# Altium integrated library Maxim Analog Filters.IntLib: 555 symbols (part 11 of 26)
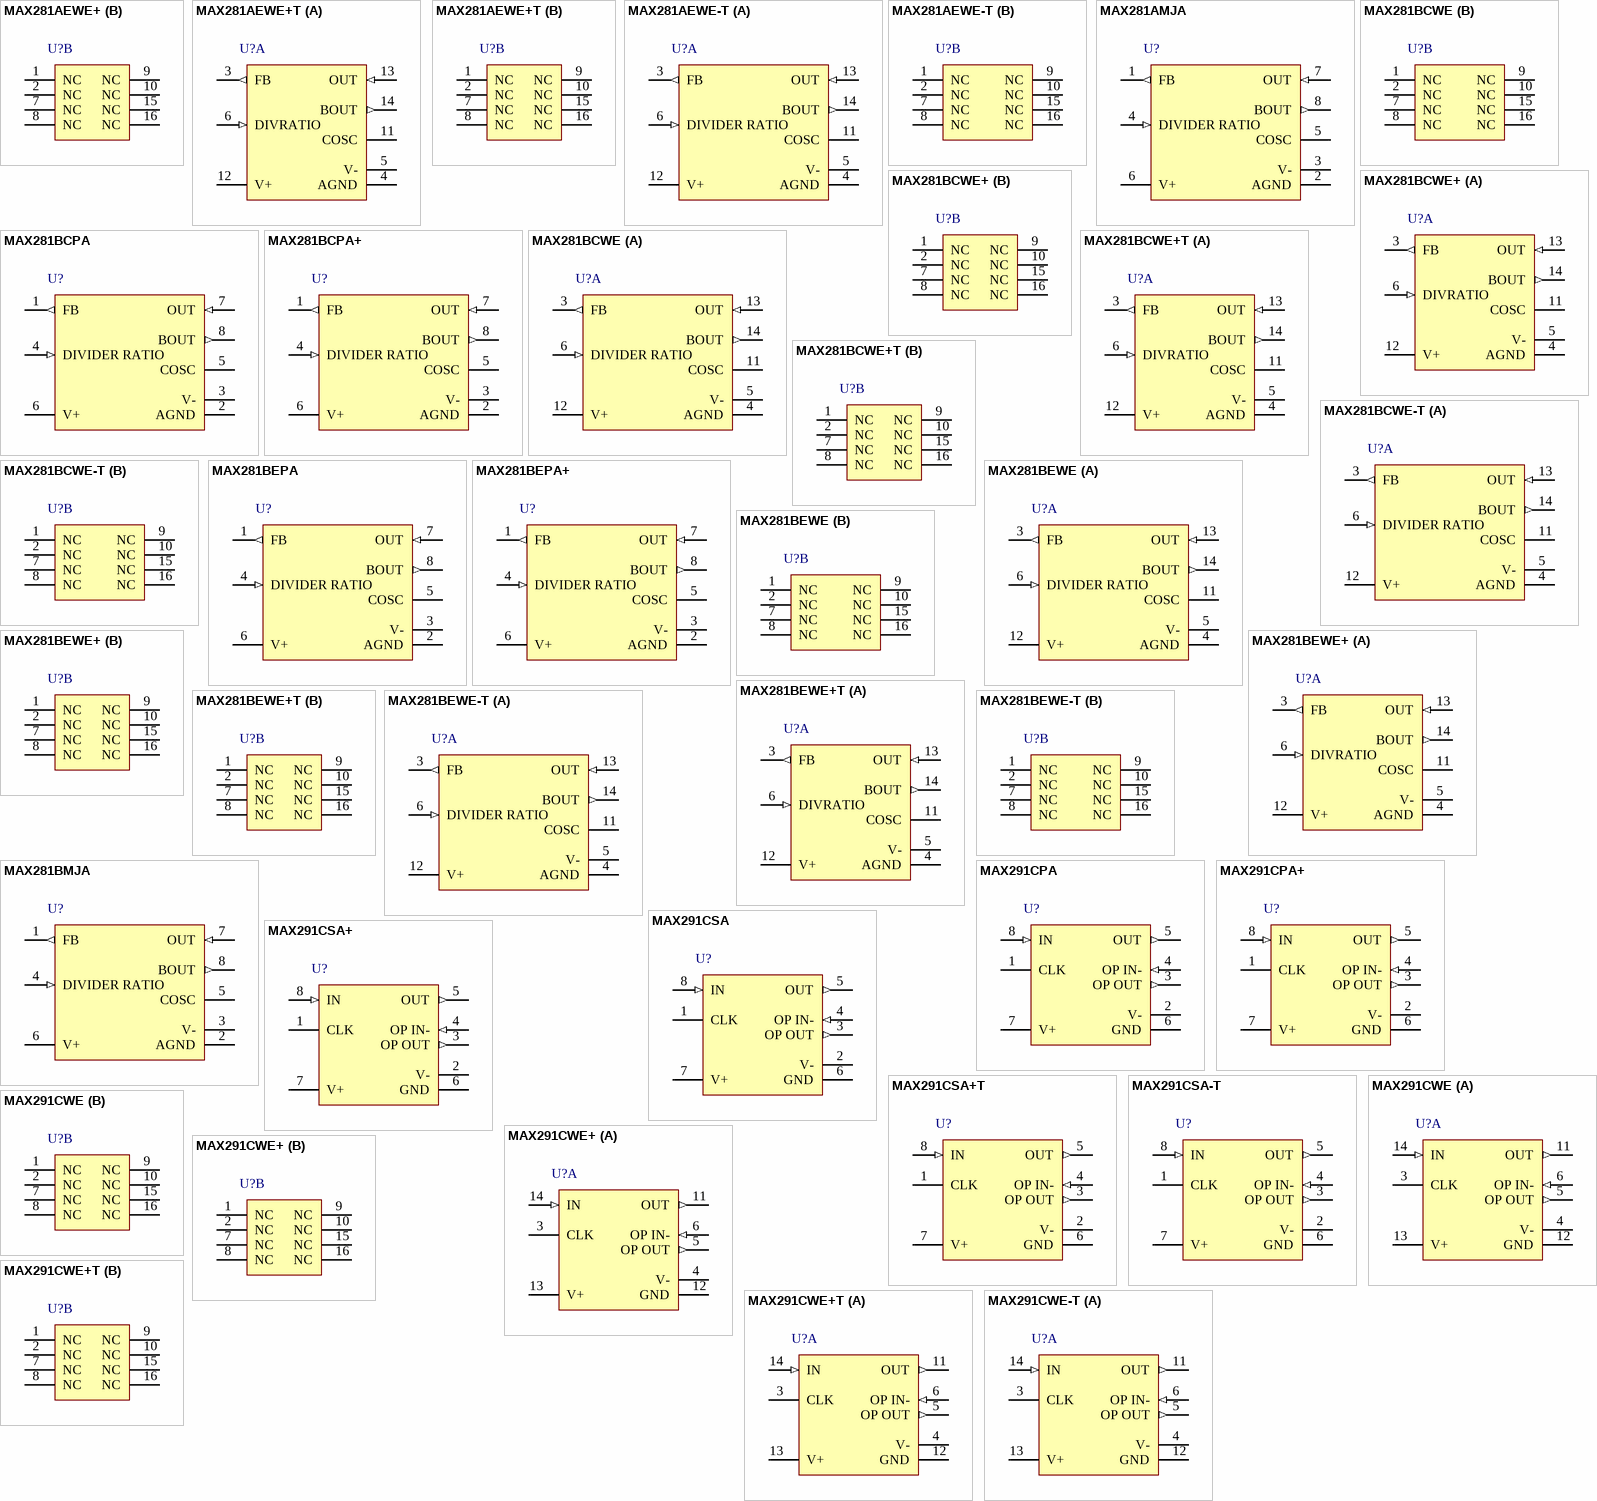
[diagram p27: symbols MAX281AEWE+ to MAX291CWE-T]

## MAX291CPA+
designator U?
8th-Order Switched Capacitor Lowpass Filter, Butterworth, 0 to 70 degC, 8-Pin DIP (P8+2), Pb-Free; Generic Part Number: MAX291; PartNumber: MAX291CPA+; Filter Sections: 1; Order Per Filter Section: 8; Program Method: Clock; DatasheetVersion: Rev. 5; PackageVersion: Rev. E, 04/2011; PackageReference: P8+2; PackageDescription: 8-Pin Plastic Dual-In-Line, Narrow (0.3in) (P8+2), Body 9.375 x 6.985 mm, Pitch 2.54 mm; Supplier 1: Digi-Key; Supplier Part Number 1: MAX291CPA+-ND; Supplier 2: Mouser; Supplier Part Number 2: 700-MAX291CPA; Filter Characteristic: Butterworth; Filter Class: Switched Cap; Filter Type: Lowpass; RoHS: Pb-Free; Mounting Technology: Through Hole; Code_JEDEC: MS001-XX; ComponentLink1Description: Manufacturer URL; ComponentLink1URL: http://www.maximintegrated.com/; ComponentLink2Description: Datasheet; ComponentLink2URL: http://datasheets.maximintegrated.com/en/ds/MAX291-MAX296.pdf; ComponentLink3Description: Package Specification; ComponentLink3URL: http://pdfserv.maximintegrated.com/package_dwgs/21-0043.PDF
footprint MAXM-P8+2 (DIP, 8-Leads, Body 9.375x6.985mm, Pitch 2.54mm)
pins: 1 CLK "Clock Input. Use internal or external clock.", 2 V- (power) "Negative Supply pin. Dual supplies: -2.375V to -5.500V. Single supplies: V- = 0V.", 3 OP OUT (out) "Uncommitted Op-Amp Output", 4 OP IN- (in) "Inverting Input to the uncommitted op amp. The noninverting op amp is internally tied to ground.", 5 OUT (out) "Filter Output", 6 GND (power) "Ground. In single-supply operation, GND must be biased to the mid-supply voltage level.", 7 V+ (power) "Positive Supply pin. Dual supplies: +2.375V to +5.500V. Single supplies: +4.75V to +11.0V.", 8 IN (in) "Filter Input"

## MAX291CSA
designator U?
8th-Order Switched Capacitor Lowpass Filter, Butterworth, 0 to 70 degC, 8-Pin SOIC (S8-5); Generic Part Number: MAX291; PartNumber: MAX291CSA; Filter Sections: 1; Order Per Filter Section: 8; Program Method: Clock; DatasheetVersion: Rev. 5; PackageVersion: Rev. D, 10/2012; PackageReference: S8-5; PackageDescription: 8-Pin Small-Outline IC, Narrow (0.15in) (S8-5), Body 4.90 x 3.90 mm, Pitch 1.27 mm; Supplier 1: Mouser; Supplier Part Number 1: N/A; Filter Characteristic: Butterworth; Filter Class: Switched Cap; Filter Type: Lowpass; Mounting Technology: Surface Mount; Code_JEDEC: MS012; ComponentLink1Description: Manufacturer URL; ComponentLink1URL: http://www.maximintegrated.com/; ComponentLink2Description: Datasheet; ComponentLink2URL: http://datasheets.maximintegrated.com/en/ds/MAX291-MAX296.pdf; ComponentLink3Description: Package Specification; ComponentLink3URL: http://pdfserv.maximintegrated.com/package_dwgs/21-0041.PDF
footprint MAXM-S8-5_N (SOIC, 8-Leads, Body 4.9x3.9mm, Pitch 1.27mm, IPC Medium Density)
footprint MAXM-S8-5_L (SOIC, 8-Leads, Body 4.9x3.9mm, Pitch 1.27mm, IPC High Density)
footprint MAXM-S8-5_M (SOIC, 8-Leads, Body 4.9x3.9mm, Pitch 1.27mm, IPC Low Density)
pins: 1 CLK "Clock Input. Use internal or external clock.", 2 V- (power) "Negative Supply pin. Dual supplies: -2.375V to -5.500V. Single supplies: V- = 0V.", 3 OP OUT (out) "Uncommitted Op-Amp Output", 4 OP IN- (in) "Inverting Input to the uncommitted op amp. The noninverting op amp is internally tied to ground.", 5 OUT (out) "Filter Output", 6 GND (power) "Ground. In single-supply operation, GND must be biased to the mid-supply voltage level.", 7 V+ (power) "Positive Supply pin. Dual supplies: +2.375V to +5.500V. Single supplies: +4.75V to +11.0V.", 8 IN (in) "Filter Input"

## MAX291CSA+
designator U?
8th-Order Switched Capacitor Lowpass Filter, Butterworth, 0 to 70 degC, 8-Pin SOIC (S8+5), Pb-Free; Generic Part Number: MAX291; PartNumber: MAX291CSA+; Filter Sections: 1; Order Per Filter Section: 8; Program Method: Clock; DatasheetVersion: Rev. 5; PackageVersion: Rev. D, 10/2012; PackageReference: S8+5; PackageDescription: 8-Pin Small-Outline IC, Narrow (0.15in) (S8+5), Body 4.90 x 3.90 mm, Pitch 1.27 mm; Supplier 1: Digi-Key; Supplier Part Number 1: MAX291CSA+-ND; Supplier 2: Mouser; Supplier Part Number 2: 700-MAX291CSA; Filter Characteristic: Butterworth; Filter Class: Switched Cap; Filter Type: Lowpass; RoHS: Pb-Free; Mounting Technology: Surface Mount; Code_JEDEC: MS012; ComponentLink1Description: Manufacturer URL; ComponentLink1URL: http://www.maximintegrated.com/; ComponentLink2Description: Datasheet; ComponentLink2URL: http://datasheets.maximintegrated.com/en/ds/MAX291-MAX296.pdf; ComponentLink3Description: Package Specification; ComponentLink3URL: http://pdfserv.maximintegrated.com/package_dwgs/21-0041.PDF
footprint MAXM-S8+5_N (SOIC, 8-Leads, Body 4.90x3.90mm, Pitch 1.27mm, IPC Medium Density)
footprint MAXM-S8+5_L (SOIC, 8-Leads, Body 4.90x3.90mm, Pitch 1.27mm, IPC High Density)
footprint MAXM-S8+5_M (SOIC, 8-Leads, Body 4.90x3.90mm, Pitch 1.27mm, IPC Low Density)
pins: 1 CLK "Clock Input. Use internal or external clock.", 2 V- (power) "Negative Supply pin. Dual supplies: -2.375V to -5.500V. Single supplies: V- = 0V.", 3 OP OUT (out) "Uncommitted Op-Amp Output", 4 OP IN- (in) "Inverting Input to the uncommitted op amp. The noninverting op amp is internally tied to ground.", 5 OUT (out) "Filter Output", 6 GND (power) "Ground. In single-supply operation, GND must be biased to the mid-supply voltage level.", 7 V+ (power) "Positive Supply pin. Dual supplies: +2.375V to +5.500V. Single supplies: +4.75V to +11.0V.", 8 IN (in) "Filter Input"

## MAX291CSA+T
designator U?
8th-Order Switched Capacitor Lowpass Filter, Butterworth, 0 to 70 degC, 8-Pin SOIC (S8+5), Pb-Free, Tape and Reel; Generic Part Number: MAX291; PartNumber: MAX291CSA+T; Filter Sections: 1; Order Per Filter Section: 8; Program Method: Clock; DatasheetVersion: Rev. 5; PackageVersion: Rev. D, 10/2012; PackageReference: S8+5; PackageDescription: 8-Pin Small-Outline IC, Narrow (0.15in) (S8+5), Body 4.90 x 3.90 mm, Pitch 1.27 mm; Supplier 1: Digi-Key; Supplier Part Number 1: MAX291CSA+T-ND; Supplier 2: Mouser; Supplier Part Number 2: 700-MAX291CSAT; Filter Characteristic: Butterworth; Filter Class: Switched Cap; Filter Type: Lowpass; Packing: Tape and Reel; RoHS: Pb-Free; Mounting Technology: Surface Mount; Code_JEDEC: MS012; ComponentLink1Description: Manufacturer URL; ComponentLink1URL: http://www.maximintegrated.com/; ComponentLink2Description: Datasheet; ComponentLink2URL: http://datasheets.maximintegrated.com/en/ds/MAX291-MAX296.pdf; ComponentLink3Description: Package Specification; ComponentLink3URL: http://pdfserv.maximintegrated.com/package_dwgs/21-0041.PDF
footprint MAXM-S8+5_N (SOIC, 8-Leads, Body 4.90x3.90mm, Pitch 1.27mm, IPC Medium Density)
footprint MAXM-S8+5_L (SOIC, 8-Leads, Body 4.90x3.90mm, Pitch 1.27mm, IPC High Density)
footprint MAXM-S8+5_M (SOIC, 8-Leads, Body 4.90x3.90mm, Pitch 1.27mm, IPC Low Density)
pins: 1 CLK "Clock Input. Use internal or external clock.", 2 V- (power) "Negative Supply pin. Dual supplies: -2.375V to -5.500V. Single supplies: V- = 0V.", 3 OP OUT (out) "Uncommitted Op-Amp Output", 4 OP IN- (in) "Inverting Input to the uncommitted op amp. The noninverting op amp is internally tied to ground.", 5 OUT (out) "Filter Output", 6 GND (power) "Ground. In single-supply operation, GND must be biased to the mid-supply voltage level.", 7 V+ (power) "Positive Supply pin. Dual supplies: +2.375V to +5.500V. Single supplies: +4.75V to +11.0V.", 8 IN (in) "Filter Input"

## MAX291CSA-T
designator U?
8th-Order Switched Capacitor Lowpass Filter, Butterworth, 0 to 70 degC, 8-Pin SOIC (S8-5), Tape and Reel; Generic Part Number: MAX291; PartNumber: MAX291CSA-T; Filter Sections: 1; Order Per Filter Section: 8; Program Method: Clock; DatasheetVersion: Rev. 5; PackageVersion: Rev. D, 10/2012; PackageReference: S8-5; PackageDescription: 8-Pin Small-Outline IC, Narrow (0.15in) (S8-5), Body 4.90 x 3.90 mm, Pitch 1.27 mm; Supplier 1: Mouser; Supplier Part Number 1: N/A; Filter Characteristic: Butterworth; Filter Class: Switched Cap; Filter Type: Lowpass; Packing: Tape and Reel; Mounting Technology: Surface Mount; Code_JEDEC: MS012; ComponentLink1Description: Manufacturer URL; ComponentLink1URL: http://www.maximintegrated.com/; ComponentLink2Description: Datasheet; ComponentLink2URL: http://datasheets.maximintegrated.com/en/ds/MAX291-MAX296.pdf; ComponentLink3Description: Package Specification; ComponentLink3URL: http://pdfserv.maximintegrated.com/package_dwgs/21-0041.PDF
footprint MAXM-S8-5_N (SOIC, 8-Leads, Body 4.9x3.9mm, Pitch 1.27mm, IPC Medium Density)
footprint MAXM-S8-5_L (SOIC, 8-Leads, Body 4.9x3.9mm, Pitch 1.27mm, IPC High Density)
footprint MAXM-S8-5_M (SOIC, 8-Leads, Body 4.9x3.9mm, Pitch 1.27mm, IPC Low Density)
pins: 1 CLK "Clock Input. Use internal or external clock.", 2 V- (power) "Negative Supply pin. Dual supplies: -2.375V to -5.500V. Single supplies: V- = 0V.", 3 OP OUT (out) "Uncommitted Op-Amp Output", 4 OP IN- (in) "Inverting Input to the uncommitted op amp. The noninverting op amp is internally tied to ground.", 5 OUT (out) "Filter Output", 6 GND (power) "Ground. In single-supply operation, GND must be biased to the mid-supply voltage level.", 7 V+ (power) "Positive Supply pin. Dual supplies: +2.375V to +5.500V. Single supplies: +4.75V to +11.0V.", 8 IN (in) "Filter Input"

## MAX291CWE
designator U?
8th-Order Switched Capacitor Lowpass Filter, Butterworth, 0 to 70 degC, 16-Pin SOIC (W16-1); Generic Part Number: MAX291; PartNumber: MAX291CWE; Filter Sections: 1; Order Per Filter Section: 8; Program Method: Clock; DatasheetVersion: Rev. 5; PackageVersion: Rev. F, 10/2012; PackageReference: W16-1; PackageDescription: 16-Pin Small-Outline IC, Wide (0.3in) (W16-1), Body 10.3 x 7.5 mm, Pitch 1.27 mm; Supplier 1: Mouser; Supplier Part Number 1: N/A; Filter Characteristic: Butterworth; Filter Class: Switched Cap; Filter Type: Lowpass; Mounting Technology: Surface Mount; Code_JEDEC: MS013; ComponentLink1Description: Manufacturer URL; ComponentLink1URL: http://www.maximintegrated.com/; ComponentLink2Description: Datasheet; ComponentLink2URL: http://datasheets.maximintegrated.com/en/ds/MAX291-MAX296.pdf; ComponentLink3Description: Package Specification; ComponentLink3URL: http://pdfserv.maximintegrated.com/package_dwgs/21-0042.PDF
footprint MAXM-W16-1_N (SOIC, 16-Leads, Body 10.3x7.5mm, Pitch 1.27mm, IPC Medium Density)
footprint MAXM-W16-1_L (SOIC, 16-Leads, Body 10.3x7.5mm, Pitch 1.27mm, IPC High Density)
footprint MAXM-W16-1_M (SOIC, 16-Leads, Body 10.3x7.5mm, Pitch 1.27mm, IPC Low Density)
part A pins: 3 CLK "Clock Input. Use internal or external clock.", 4 V- (power) "Negative Supply pin. Dual supplies: -2.375V to -5.500V. Single supplies: V- = 0V.", 5 OP OUT (out) "Uncommitted Op-Amp Output", 6 OP IN- (in) "Inverting Input to the uncommitted op amp. The noninverting op amp is internally tied to ground.", 11 OUT (out) "Filter Output", 12 GND (power) "Ground. In single-supply operation, GND must be biased to the mid-supply voltage level", 13 V+ (power) "Positive Supply pin. Dual supplies:+2.375V to +5.500V. Single supplies: +4.75V to +11.0V.", 14 IN (in) "Filter Input"
part B pins: 1 NC "No Connect", 2 NC "No Connect", 7 NC "No Connect", 8 NC "No Connect", 9 NC "No Connect", 10 NC "No Connect", 15 NC "No Connect", 16 NC "No Connect"

## MAX291CWE+
designator U?
8th-Order Switched Capacitor Lowpass Filter, Butterworth, 0 to 70 degC, 16-Pin SOIC (W16+1), Pb-Free; Generic Part Number: MAX291; PartNumber: MAX291CWE+; Filter Sections: 1; Order Per Filter Section: 8; Program Method: Clock; DatasheetVersion: Rev. 5; PackageVersion: Rev. F, 10/2012; PackageReference: W16+1; PackageDescription: 16-Pin Small-Outline IC, Wide (0.3in) (W16+1), Body 10.3 x 7.5 mm, Pitch 1.27 mm; Supplier 1: Digi-Key; Supplier Part Number 1: MAX291CWE+-ND; Supplier 2: Newark; Supplier Part Number 2: 67K4529; Supplier 3: Mouser; Supplier Part Number 3: 700-MAX291CWE; Filter Characteristic: Butterworth; Filter Class: Switched Cap; Filter Type: Lowpass; RoHS: Pb-Free; Mounting Technology: Surface Mount; Code_JEDEC: MS013; ComponentLink1Description: Manufacturer URL; ComponentLink1URL: http://www.maximintegrated.com/; ComponentLink2Description: Datasheet; ComponentLink2URL: http://datasheets.maximintegrated.com/en/ds/MAX291-MAX296.pdf; ComponentLink3Description: Package Specification; ComponentLink3URL: http://pdfserv.maximintegrated.com/package_dwgs/21-0042.PDF
footprint MAXM-W16+1_N (SOIC, 16-Leads, Body 10.3x7.5mm, Pitch 1.27mm, IPC Medium Density)
footprint MAXM-W16+1_L (SOIC, 16-Leads, Body 10.3x7.5mm, Pitch 1.27mm, IPC High Density)
footprint MAXM-W16+1_M (SOIC, 16-Leads, Body 10.3x7.5mm, Pitch 1.27mm, IPC Low Density)
part A pins: 3 CLK "Clock Input. Use internal or external clock.", 4 V- (power) "Negative Supply pin. Dual supplies: -2.375V to -5.500V. Single supplies: V- = 0V.", 5 OP OUT (out) "Uncommitted Op-Amp Output", 6 OP IN- (in) "Inverting Input to the uncommitted op amp. The noninverting op amp is internally tied to ground.", 11 OUT (out) "Filter Output", 12 GND (power) "Ground. In single-supply operation, GND must be biased to the mid-supply voltage level", 13 V+ (power) "Positive Supply pin. Dual supplies:+2.375V to +5.500V. Single supplies: +4.75V to +11.0V.", 14 IN (in) "Filter Input"
part B pins: 1 NC "No Connect", 2 NC "No Connect", 7 NC "No Connect", 8 NC "No Connect", 9 NC "No Connect", 10 NC "No Connect", 15 NC "No Connect", 16 NC "No Connect"

## MAX291CWE+T
designator U?
8th-Order Switched Capacitor Lowpass Filter, Butterworth, 0 to 70 degC, 16-Pin SOIC (W16+1), Pb-Free, Tape and Reel; Generic Part Number: MAX291; PartNumber: MAX291CWE+T; Filter Sections: 1; Order Per Filter Section: 8; Program Method: Clock; DatasheetVersion: Rev. 5; PackageVersion: Rev. F, 10/2012; PackageReference: W16+1; PackageDescription: 16-Pin Small-Outline IC, Wide (0.3in) (W16+1), Body 10.3 x 7.5 mm, Pitch 1.27 mm; Supplier 1: Digi-Key; Supplier Part Number 1: MAX291CWE+T-ND; Supplier 2: Mouser; Supplier Part Number 2: 700-MAX291CWET; Filter Characteristic: Butterworth; Filter Class: Switched Cap; Filter Type: Lowpass; Packing: Tape and Reel; RoHS: Pb-Free; Mounting Technology: Surface Mount; Code_JEDEC: MS013; ComponentLink1Description: Manufacturer URL; ComponentLink1URL: http://www.maximintegrated.com/; ComponentLink2Description: Datasheet; ComponentLink2URL: http://datasheets.maximintegrated.com/en/ds/MAX291-MAX296.pdf; ComponentLink3Description: Package Specification; ComponentLink3URL: http://pdfserv.maximintegrated.com/package_dwgs/21-0042.PDF
footprint MAXM-W16+1_N (SOIC, 16-Leads, Body 10.3x7.5mm, Pitch 1.27mm, IPC Medium Density)
footprint MAXM-W16+1_L (SOIC, 16-Leads, Body 10.3x7.5mm, Pitch 1.27mm, IPC High Density)
footprint MAXM-W16+1_M (SOIC, 16-Leads, Body 10.3x7.5mm, Pitch 1.27mm, IPC Low Density)
part A pins: 3 CLK "Clock Input. Use internal or external clock.", 4 V- (power) "Negative Supply pin. Dual supplies: -2.375V to -5.500V. Single supplies: V- = 0V.", 5 OP OUT (out) "Uncommitted Op-Amp Output", 6 OP IN- (in) "Inverting Input to the uncommitted op amp. The noninverting op amp is internally tied to ground.", 11 OUT (out) "Filter Output", 12 GND (power) "Ground. In single-supply operation, GND must be biased to the mid-supply voltage level", 13 V+ (power) "Positive Supply pin. Dual supplies:+2.375V to +5.500V. Single supplies: +4.75V to +11.0V.", 14 IN (in) "Filter Input"
part B pins: 1 NC "No Connect", 2 NC "No Connect", 7 NC "No Connect", 8 NC "No Connect", 9 NC "No Connect", 10 NC "No Connect", 15 NC "No Connect", 16 NC "No Connect"

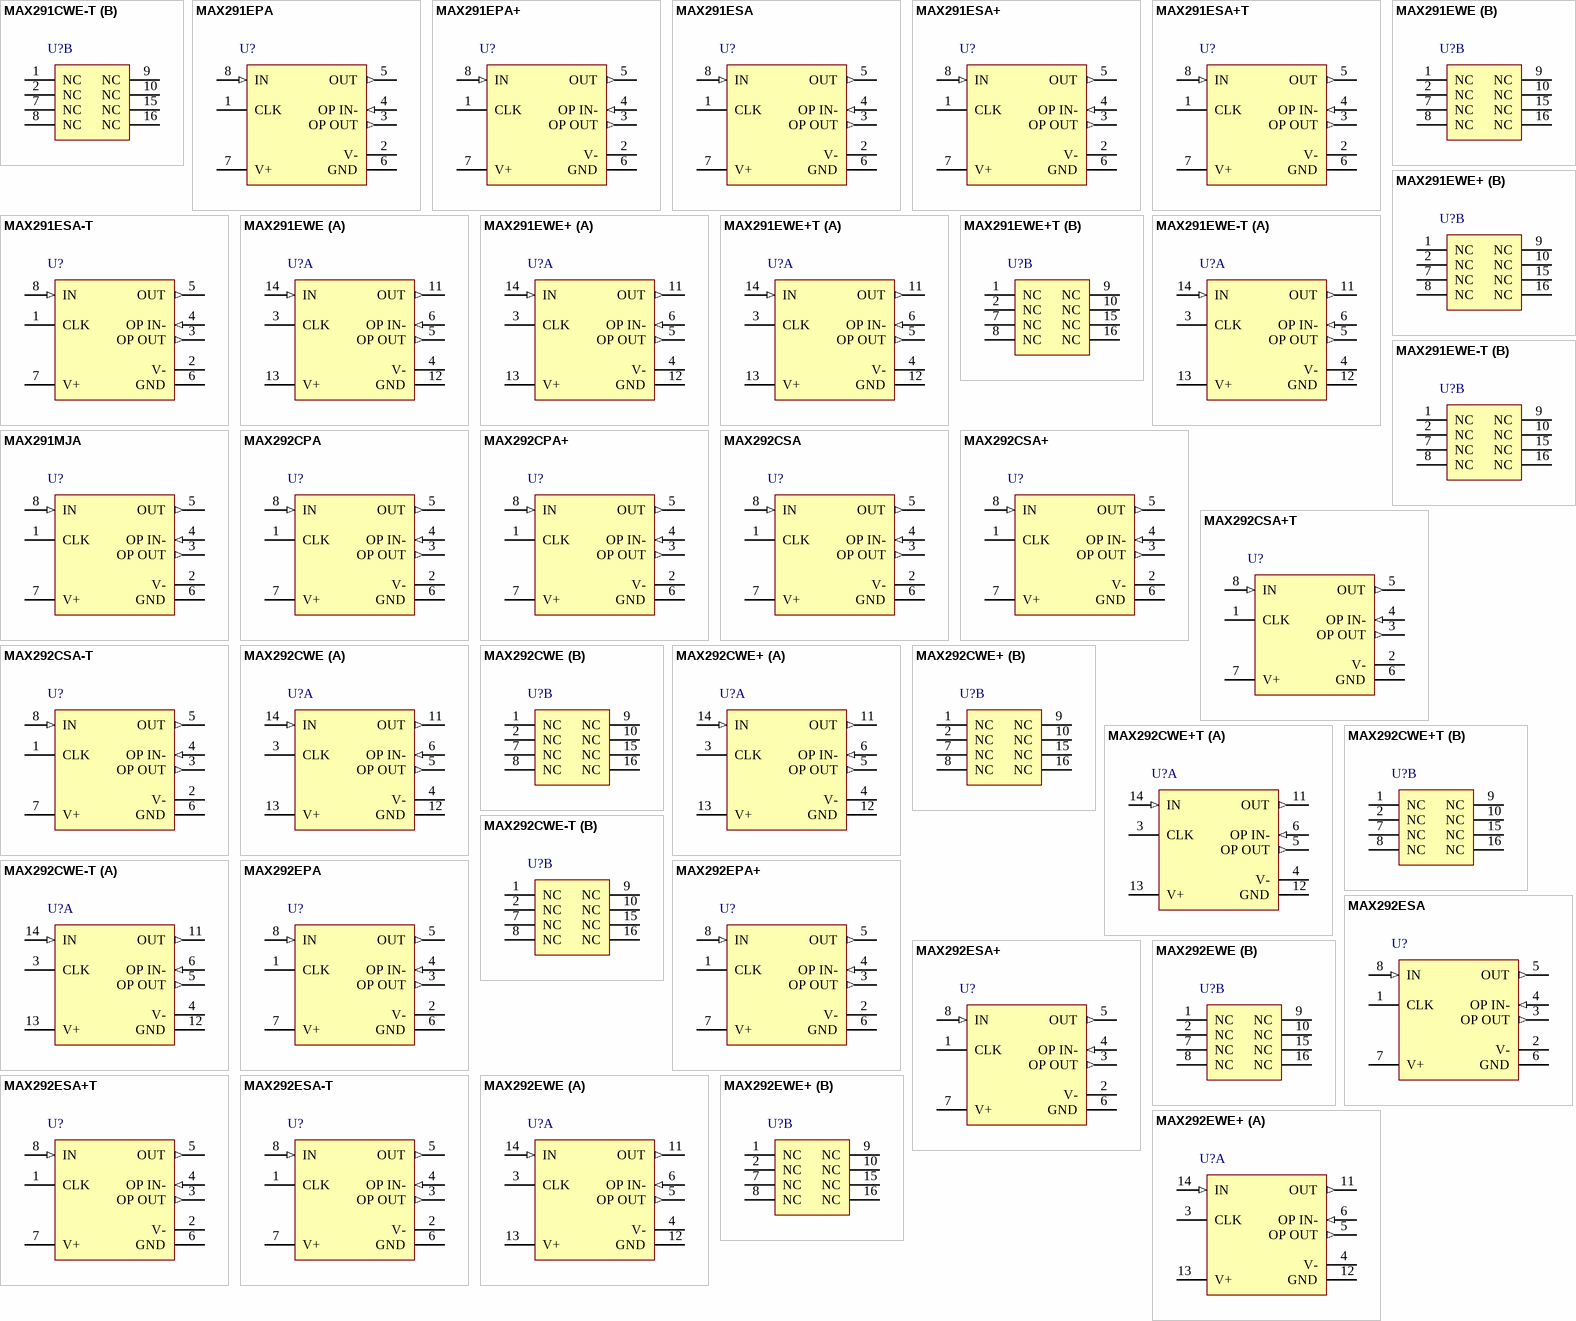
[diagram p8: symbols MAX291CWE-T to MAX292EWE+]

## MAX291CWE-T
designator U?
8th-Order Switched Capacitor Lowpass Filter, Butterworth, 0 to 70 degC, 16-Pin SOIC (W16-1), Tape and Reel; Generic Part Number: MAX291; PartNumber: MAX291CWE-T; Filter Sections: 1; Order Per Filter Section: 8; Program Method: Clock; DatasheetVersion: Rev. 5; PackageVersion: Rev. F, 10/2012; PackageReference: W16-1; PackageDescription: 16-Pin Small-Outline IC, Wide (0.3in) (W16-1), Body 10.3 x 7.5 mm, Pitch 1.27 mm; Supplier 1: Mouser; Supplier Part Number 1: N/A; Filter Characteristic: Butterworth; Filter Class: Switched Cap; Filter Type: Lowpass; Packing: Tape and Reel; Mounting Technology: Surface Mount; Code_JEDEC: MS013; ComponentLink1Description: Manufacturer URL; ComponentLink1URL: http://www.maximintegrated.com/; ComponentLink2Description: Datasheet; ComponentLink2URL: http://datasheets.maximintegrated.com/en/ds/MAX291-MAX296.pdf; ComponentLink3Description: Package Specification; ComponentLink3URL: http://pdfserv.maximintegrated.com/package_dwgs/21-0042.PDF
footprint MAXM-W16-1_N (SOIC, 16-Leads, Body 10.3x7.5mm, Pitch 1.27mm, IPC Medium Density)
footprint MAXM-W16-1_L (SOIC, 16-Leads, Body 10.3x7.5mm, Pitch 1.27mm, IPC High Density)
footprint MAXM-W16-1_M (SOIC, 16-Leads, Body 10.3x7.5mm, Pitch 1.27mm, IPC Low Density)
part A pins: 3 CLK "Clock Input. Use internal or external clock.", 4 V- (power) "Negative Supply pin. Dual supplies: -2.375V to -5.500V. Single supplies: V- = 0V.", 5 OP OUT (out) "Uncommitted Op-Amp Output", 6 OP IN- (in) "Inverting Input to the uncommitted op amp. The noninverting op amp is internally tied to ground.", 11 OUT (out) "Filter Output", 12 GND (power) "Ground. In single-supply operation, GND must be biased to the mid-supply voltage level", 13 V+ (power) "Positive Supply pin. Dual supplies:+2.375V to +5.500V. Single supplies: +4.75V to +11.0V.", 14 IN (in) "Filter Input"
part B pins: 1 NC "No Connect", 2 NC "No Connect", 7 NC "No Connect", 8 NC "No Connect", 9 NC "No Connect", 10 NC "No Connect", 15 NC "No Connect", 16 NC "No Connect"

## MAX291EPA
designator U?
8th-Order Switched Capacitor Lowpass Filter, Butterworth, -40 to 85 degC, 8-Pin DIP (P8-2); Generic Part Number: MAX291; PartNumber: MAX291EPA; Filter Sections: 1; Order Per Filter Section: 8; Program Method: Clock; DatasheetVersion: Rev. 5; PackageVersion: Rev. E, 04/2011; PackageReference: P8-2; PackageDescription: 8-Pin Plastic Dual-In-Line, Narrow (0.3in) (P8-2), Body 9.375 x 6.985 mm, Pitch 2.54 mm; Supplier 1: Mouser; Supplier Part Number 1: N/A; Filter Characteristic: Butterworth; Filter Class: Switched Cap; Filter Type: Lowpass; Mounting Technology: Through Hole; Code_JEDEC: MS001-XX; ComponentLink1Description: Manufacturer URL; ComponentLink1URL: http://www.maximintegrated.com/; ComponentLink2Description: Datasheet; ComponentLink2URL: http://datasheets.maximintegrated.com/en/ds/MAX291-MAX296.pdf; ComponentLink3Description: Package Specification; ComponentLink3URL: http://pdfserv.maximintegrated.com/package_dwgs/21-0043.PDF
footprint MAXM-P8-2 (DIP, 8-Leads, Body 9.375x6.985mm, Pitch 2.54mm)
pins: 1 CLK "Clock Input. Use internal or external clock.", 2 V- (power) "Negative Supply pin. Dual supplies: -2.375V to -5.500V. Single supplies: V- = 0V.", 3 OP OUT (out) "Uncommitted Op-Amp Output", 4 OP IN- (in) "Inverting Input to the uncommitted op amp. The noninverting op amp is internally tied to ground.", 5 OUT (out) "Filter Output", 6 GND (power) "Ground. In single-supply operation, GND must be biased to the mid-supply voltage level.", 7 V+ (power) "Positive Supply pin. Dual supplies: +2.375V to +5.500V. Single supplies: +4.75V to +11.0V.", 8 IN (in) "Filter Input"

## MAX291EPA+
designator U?
8th-Order Switched Capacitor Lowpass Filter, Butterworth, -40 to 85 degC, 8-Pin DIP (P8+2), Pb-Free; Generic Part Number: MAX291; PartNumber: MAX291EPA+; Filter Sections: 1; Order Per Filter Section: 8; Program Method: Clock; DatasheetVersion: Rev. 5; PackageVersion: Rev. E, 04/2011; PackageReference: P8+2; PackageDescription: 8-Pin Plastic Dual-In-Line, Narrow (0.3in) (P8+2), Body 9.375 x 6.985 mm, Pitch 2.54 mm; Supplier 1: Digi-Key; Supplier Part Number 1: MAX291EPA+-ND; Supplier 2: Mouser; Supplier Part Number 2: 700-MAX291EPA; Filter Characteristic: Butterworth; Filter Class: Switched Cap; Filter Type: Lowpass; RoHS: Pb-Free; Mounting Technology: Through Hole; Code_JEDEC: MS001-XX; ComponentLink1Description: Manufacturer URL; ComponentLink1URL: http://www.maximintegrated.com/; ComponentLink2Description: Datasheet; ComponentLink2URL: http://datasheets.maximintegrated.com/en/ds/MAX291-MAX296.pdf; ComponentLink3Description: Package Specification; ComponentLink3URL: http://pdfserv.maximintegrated.com/package_dwgs/21-0043.PDF
footprint MAXM-P8+2 (DIP, 8-Leads, Body 9.375x6.985mm, Pitch 2.54mm)
pins: 1 CLK "Clock Input. Use internal or external clock.", 2 V- (power) "Negative Supply pin. Dual supplies: -2.375V to -5.500V. Single supplies: V- = 0V.", 3 OP OUT (out) "Uncommitted Op-Amp Output", 4 OP IN- (in) "Inverting Input to the uncommitted op amp. The noninverting op amp is internally tied to ground.", 5 OUT (out) "Filter Output", 6 GND (power) "Ground. In single-supply operation, GND must be biased to the mid-supply voltage level.", 7 V+ (power) "Positive Supply pin. Dual supplies: +2.375V to +5.500V. Single supplies: +4.75V to +11.0V.", 8 IN (in) "Filter Input"

## MAX291ESA
designator U?
8th-Order Switched Capacitor Lowpass Filter, Butterworth, -40 to 85 degC, 8-Pin SOIC (S8-5); Generic Part Number: MAX291; PartNumber: MAX291ESA; Filter Sections: 1; Order Per Filter Section: 8; Program Method: Clock; DatasheetVersion: Rev. 5; PackageVersion: Rev. D, 10/2012; PackageReference: S8-5; PackageDescription: 8-Pin Small-Outline IC, Narrow (0.15in) (S8-5), Body 4.90 x 3.90 mm, Pitch 1.27 mm; Supplier 1: Mouser; Supplier Part Number 1: N/A; Filter Characteristic: Butterworth; Filter Class: Switched Cap; Filter Type: Lowpass; Mounting Technology: Surface Mount; Code_JEDEC: MS012; ComponentLink1Description: Manufacturer URL; ComponentLink1URL: http://www.maximintegrated.com/; ComponentLink2Description: Datasheet; ComponentLink2URL: http://datasheets.maximintegrated.com/en/ds/MAX291-MAX296.pdf; ComponentLink3Description: Package Specification; ComponentLink3URL: http://pdfserv.maximintegrated.com/package_dwgs/21-0041.PDF
footprint MAXM-S8-5_N (SOIC, 8-Leads, Body 4.9x3.9mm, Pitch 1.27mm, IPC Medium Density)
footprint MAXM-S8-5_L (SOIC, 8-Leads, Body 4.9x3.9mm, Pitch 1.27mm, IPC High Density)
footprint MAXM-S8-5_M (SOIC, 8-Leads, Body 4.9x3.9mm, Pitch 1.27mm, IPC Low Density)
pins: 1 CLK "Clock Input. Use internal or external clock.", 2 V- (power) "Negative Supply pin. Dual supplies: -2.375V to -5.500V. Single supplies: V- = 0V.", 3 OP OUT (out) "Uncommitted Op-Amp Output", 4 OP IN- (in) "Inverting Input to the uncommitted op amp. The noninverting op amp is internally tied to ground.", 5 OUT (out) "Filter Output", 6 GND (power) "Ground. In single-supply operation, GND must be biased to the mid-supply voltage level.", 7 V+ (power) "Positive Supply pin. Dual supplies: +2.375V to +5.500V. Single supplies: +4.75V to +11.0V.", 8 IN (in) "Filter Input"

## MAX291ESA+
designator U?
8th-Order Switched Capacitor Lowpass Filter, Butterworth, -40 to 85 degC, 8-Pin SOIC (S8+5), Pb-Free; Generic Part Number: MAX291; PartNumber: MAX291ESA+; Filter Sections: 1; Order Per Filter Section: 8; Program Method: Clock; DatasheetVersion: Rev. 5; PackageVersion: Rev. D, 10/2012; PackageReference: S8+5; PackageDescription: 8-Pin Small-Outline IC, Narrow (0.15in) (S8+5), Body 4.90 x 3.90 mm, Pitch 1.27 mm; Supplier 1: Digi-Key; Supplier Part Number 1: MAX291ESA+-ND; Supplier 2: Mouser; Supplier Part Number 2: 700-MAX291ESA; Filter Characteristic: Butterworth; Filter Class: Switched Cap; Filter Type: Lowpass; RoHS: Pb-Free; Mounting Technology: Surface Mount; Code_JEDEC: MS012; ComponentLink1Description: Manufacturer URL; ComponentLink1URL: http://www.maximintegrated.com/; ComponentLink2Description: Datasheet; ComponentLink2URL: http://datasheets.maximintegrated.com/en/ds/MAX291-MAX296.pdf; ComponentLink3Description: Package Specification; ComponentLink3URL: http://pdfserv.maximintegrated.com/package_dwgs/21-0041.PDF
footprint MAXM-S8+5_N (SOIC, 8-Leads, Body 4.90x3.90mm, Pitch 1.27mm, IPC Medium Density)
footprint MAXM-S8+5_L (SOIC, 8-Leads, Body 4.90x3.90mm, Pitch 1.27mm, IPC High Density)
footprint MAXM-S8+5_M (SOIC, 8-Leads, Body 4.90x3.90mm, Pitch 1.27mm, IPC Low Density)
pins: 1 CLK "Clock Input. Use internal or external clock.", 2 V- (power) "Negative Supply pin. Dual supplies: -2.375V to -5.500V. Single supplies: V- = 0V.", 3 OP OUT (out) "Uncommitted Op-Amp Output", 4 OP IN- (in) "Inverting Input to the uncommitted op amp. The noninverting op amp is internally tied to ground.", 5 OUT (out) "Filter Output", 6 GND (power) "Ground. In single-supply operation, GND must be biased to the mid-supply voltage level.", 7 V+ (power) "Positive Supply pin. Dual supplies: +2.375V to +5.500V. Single supplies: +4.75V to +11.0V.", 8 IN (in) "Filter Input"

## MAX291ESA+T
designator U?
8th-Order Switched Capacitor Lowpass Filter, Butterworth, -40 to 85 degC, 8-Pin SOIC (S8+5), Pb-Free, Tape and Reel; Generic Part Number: MAX291; PartNumber: MAX291ESA+T; Filter Sections: 1; Order Per Filter Section: 8; Program Method: Clock; DatasheetVersion: Rev. 5; PackageVersion: Rev. D, 10/2012; PackageReference: S8+5; PackageDescription: 8-Pin Small-Outline IC, Narrow (0.15in) (S8+5), Body 4.90 x 3.90 mm, Pitch 1.27 mm; Supplier 1: Digi-Key; Supplier Part Number 1: MAX291ESA+T-ND; Supplier 2: Mouser; Supplier Part Number 2: 700-MAX291ESAT; Filter Characteristic: Butterworth; Filter Class: Switched Cap; Filter Type: Lowpass; Packing: Tape and Reel; RoHS: Pb-Free; Mounting Technology: Surface Mount; Code_JEDEC: MS012; ComponentLink1Description: Manufacturer URL; ComponentLink1URL: http://www.maximintegrated.com/; ComponentLink2Description: Datasheet; ComponentLink2URL: http://datasheets.maximintegrated.com/en/ds/MAX291-MAX296.pdf; ComponentLink3Description: Package Specification; ComponentLink3URL: http://pdfserv.maximintegrated.com/package_dwgs/21-0041.PDF
footprint MAXM-S8+5_N (SOIC, 8-Leads, Body 4.90x3.90mm, Pitch 1.27mm, IPC Medium Density)
footprint MAXM-S8+5_L (SOIC, 8-Leads, Body 4.90x3.90mm, Pitch 1.27mm, IPC High Density)
footprint MAXM-S8+5_M (SOIC, 8-Leads, Body 4.90x3.90mm, Pitch 1.27mm, IPC Low Density)
pins: 1 CLK "Clock Input. Use internal or external clock.", 2 V- (power) "Negative Supply pin. Dual supplies: -2.375V to -5.500V. Single supplies: V- = 0V.", 3 OP OUT (out) "Uncommitted Op-Amp Output", 4 OP IN- (in) "Inverting Input to the uncommitted op amp. The noninverting op amp is internally tied to ground.", 5 OUT (out) "Filter Output", 6 GND (power) "Ground. In single-supply operation, GND must be biased to the mid-supply voltage level.", 7 V+ (power) "Positive Supply pin. Dual supplies: +2.375V to +5.500V. Single supplies: +4.75V to +11.0V.", 8 IN (in) "Filter Input"

## MAX291ESA-T
designator U?
8th-Order Switched Capacitor Lowpass Filter, Butterworth, -40 to 85 degC, 8-Pin SOIC (S8-5), Tape and Reel; Generic Part Number: MAX291; PartNumber: MAX291ESA-T; Filter Sections: 1; Order Per Filter Section: 8; Program Method: Clock; DatasheetVersion: Rev. 5; PackageVersion: Rev. D, 10/2012; PackageReference: S8-5; PackageDescription: 8-Pin Small-Outline IC, Narrow (0.15in) (S8-5), Body 4.90 x 3.90 mm, Pitch 1.27 mm; Supplier 1: Mouser; Supplier Part Number 1: N/A; Filter Characteristic: Butterworth; Filter Class: Switched Cap; Filter Type: Lowpass; Packing: Tape and Reel; Mounting Technology: Surface Mount; Code_JEDEC: MS012; ComponentLink1Description: Manufacturer URL; ComponentLink1URL: http://www.maximintegrated.com/; ComponentLink2Description: Datasheet; ComponentLink2URL: http://datasheets.maximintegrated.com/en/ds/MAX291-MAX296.pdf; ComponentLink3Description: Package Specification; ComponentLink3URL: http://pdfserv.maximintegrated.com/package_dwgs/21-0041.PDF
footprint MAXM-S8-5_N (SOIC, 8-Leads, Body 4.9x3.9mm, Pitch 1.27mm, IPC Medium Density)
footprint MAXM-S8-5_L (SOIC, 8-Leads, Body 4.9x3.9mm, Pitch 1.27mm, IPC High Density)
footprint MAXM-S8-5_M (SOIC, 8-Leads, Body 4.9x3.9mm, Pitch 1.27mm, IPC Low Density)
pins: 1 CLK "Clock Input. Use internal or external clock.", 2 V- (power) "Negative Supply pin. Dual supplies: -2.375V to -5.500V. Single supplies: V- = 0V.", 3 OP OUT (out) "Uncommitted Op-Amp Output", 4 OP IN- (in) "Inverting Input to the uncommitted op amp. The noninverting op amp is internally tied to ground.", 5 OUT (out) "Filter Output", 6 GND (power) "Ground. In single-supply operation, GND must be biased to the mid-supply voltage level.", 7 V+ (power) "Positive Supply pin. Dual supplies: +2.375V to +5.500V. Single supplies: +4.75V to +11.0V.", 8 IN (in) "Filter Input"

## MAX291EWE
designator U?
8th-Order Switched Capacitor Lowpass Filter, Butterworth, -40 to 85 degC, 16-Pin SOIC (W16-1); Generic Part Number: MAX291; PartNumber: MAX291EWE; Filter Sections: 1; Order Per Filter Section: 8; Program Method: Clock; DatasheetVersion: Rev. 5; PackageVersion: Rev. F, 10/2012; PackageReference: W16-1; PackageDescription: 16-Pin Small-Outline IC, Wide (0.3in) (W16-1), Body 10.3 x 7.5 mm, Pitch 1.27 mm; Supplier 1: Mouser; Supplier Part Number 1: N/A; Filter Characteristic: Butterworth; Filter Class: Switched Cap; Filter Type: Lowpass; Mounting Technology: Surface Mount; Code_JEDEC: MS013; ComponentLink1Description: Manufacturer URL; ComponentLink1URL: http://www.maximintegrated.com/; ComponentLink2Description: Datasheet; ComponentLink2URL: http://datasheets.maximintegrated.com/en/ds/MAX291-MAX296.pdf; ComponentLink3Description: Package Specification; ComponentLink3URL: http://pdfserv.maximintegrated.com/package_dwgs/21-0042.PDF
footprint MAXM-W16-1_N (SOIC, 16-Leads, Body 10.3x7.5mm, Pitch 1.27mm, IPC Medium Density)
footprint MAXM-W16-1_L (SOIC, 16-Leads, Body 10.3x7.5mm, Pitch 1.27mm, IPC High Density)
footprint MAXM-W16-1_M (SOIC, 16-Leads, Body 10.3x7.5mm, Pitch 1.27mm, IPC Low Density)
part A pins: 3 CLK "Clock Input. Use internal or external clock.", 4 V- (power) "Negative Supply pin. Dual supplies: -2.375V to -5.500V. Single supplies: V- = 0V.", 5 OP OUT (out) "Uncommitted Op-Amp Output", 6 OP IN- (in) "Inverting Input to the uncommitted op amp. The noninverting op amp is internally tied to ground.", 11 OUT (out) "Filter Output", 12 GND (power) "Ground. In single-supply operation, GND must be biased to the mid-supply voltage level", 13 V+ (power) "Positive Supply pin. Dual supplies:+2.375V to +5.500V. Single supplies: +4.75V to +11.0V.", 14 IN (in) "Filter Input"
part B pins: 1 NC "No Connect", 2 NC "No Connect", 7 NC "No Connect", 8 NC "No Connect", 9 NC "No Connect", 10 NC "No Connect", 15 NC "No Connect", 16 NC "No Connect"

## MAX291EWE+
designator U?
8th-Order Switched Capacitor Lowpass Filter, Butterworth, -40 to 85 degC, 16-Pin SOIC (W16+1), Pb-Free; Generic Part Number: MAX291; PartNumber: MAX291EWE+; Filter Sections: 1; Order Per Filter Section: 8; Program Method: Clock; DatasheetVersion: Rev. 5; PackageVersion: Rev. F, 10/2012; PackageReference: W16+1; PackageDescription: 16-Pin Small-Outline IC, Wide (0.3in) (W16+1), Body 10.3 x 7.5 mm, Pitch 1.27 mm; Supplier 1: Digi-Key; Supplier Part Number 1: MAX291EWE+-ND; Supplier 2: Farnell; Supplier Part Number 2: 1714943; Supplier 3: Newark; Supplier Part Number 3: 67K4533; Supplier 4: Mouser; Supplier Part Number 4: 700-MAX291EWE; Filter Characteristic: Butterworth; Filter Class: Switched Cap; Filter Type: Lowpass; RoHS: Pb-Free; Mounting Technology: Surface Mount; Code_JEDEC: MS013; ComponentLink1Description: Manufacturer URL; ComponentLink1URL: http://www.maximintegrated.com/; ComponentLink2Description: Datasheet; ComponentLink2URL: http://datasheets.maximintegrated.com/en/ds/MAX291-MAX296.pdf; ComponentLink3Description: Package Specification; ComponentLink3URL: http://pdfserv.maximintegrated.com/package_dwgs/21-0042.PDF
footprint MAXM-W16+1_N (SOIC, 16-Leads, Body 10.3x7.5mm, Pitch 1.27mm, IPC Medium Density)
footprint MAXM-W16+1_L (SOIC, 16-Leads, Body 10.3x7.5mm, Pitch 1.27mm, IPC High Density)
footprint MAXM-W16+1_M (SOIC, 16-Leads, Body 10.3x7.5mm, Pitch 1.27mm, IPC Low Density)
part A pins: 3 CLK "Clock Input. Use internal or external clock.", 4 V- (power) "Negative Supply pin. Dual supplies: -2.375V to -5.500V. Single supplies: V- = 0V.", 5 OP OUT (out) "Uncommitted Op-Amp Output", 6 OP IN- (in) "Inverting Input to the uncommitted op amp. The noninverting op amp is internally tied to ground.", 11 OUT (out) "Filter Output", 12 GND (power) "Ground. In single-supply operation, GND must be biased to the mid-supply voltage level", 13 V+ (power) "Positive Supply pin. Dual supplies:+2.375V to +5.500V. Single supplies: +4.75V to +11.0V.", 14 IN (in) "Filter Input"
part B pins: 1 NC "No Connect", 2 NC "No Connect", 7 NC "No Connect", 8 NC "No Connect", 9 NC "No Connect", 10 NC "No Connect", 15 NC "No Connect", 16 NC "No Connect"

## MAX291EWE+T
designator U?
8th-Order Switched Capacitor Lowpass Filter, Butterworth, -40 to 85 degC, 16-Pin SOIC (W16+1), Pb-Free, Tape and Reel; Generic Part Number: MAX291; PartNumber: MAX291EWE+T; Filter Sections: 1; Order Per Filter Section: 8; Program Method: Clock; DatasheetVersion: Rev. 5; PackageVersion: Rev. F, 10/2012; PackageReference: W16+1; PackageDescription: 16-Pin Small-Outline IC, Wide (0.3in) (W16+1), Body 10.3 x 7.5 mm, Pitch 1.27 mm; Supplier 1: Digi-Key; Supplier Part Number 1: MAX291EWE+T-ND; Supplier 2: Mouser; Supplier Part Number 2: 700-MAX291EWET; Filter Characteristic: Butterworth; Filter Class: Switched Cap; Filter Type: Lowpass; Packing: Tape and Reel; RoHS: Pb-Free; Mounting Technology: Surface Mount; Code_JEDEC: MS013; ComponentLink1Description: Manufacturer URL; ComponentLink1URL: http://www.maximintegrated.com/; ComponentLink2Description: Datasheet; ComponentLink2URL: http://datasheets.maximintegrated.com/en/ds/MAX291-MAX296.pdf; ComponentLink3Description: Package Specification; ComponentLink3URL: http://pdfserv.maximintegrated.com/package_dwgs/21-0042.PDF
footprint MAXM-W16+1_N (SOIC, 16-Leads, Body 10.3x7.5mm, Pitch 1.27mm, IPC Medium Density)
footprint MAXM-W16+1_L (SOIC, 16-Leads, Body 10.3x7.5mm, Pitch 1.27mm, IPC High Density)
footprint MAXM-W16+1_M (SOIC, 16-Leads, Body 10.3x7.5mm, Pitch 1.27mm, IPC Low Density)
part A pins: 3 CLK "Clock Input. Use internal or external clock.", 4 V- (power) "Negative Supply pin. Dual supplies: -2.375V to -5.500V. Single supplies: V- = 0V.", 5 OP OUT (out) "Uncommitted Op-Amp Output", 6 OP IN- (in) "Inverting Input to the uncommitted op amp. The noninverting op amp is internally tied to ground.", 11 OUT (out) "Filter Output", 12 GND (power) "Ground. In single-supply operation, GND must be biased to the mid-supply voltage level", 13 V+ (power) "Positive Supply pin. Dual supplies:+2.375V to +5.500V. Single supplies: +4.75V to +11.0V.", 14 IN (in) "Filter Input"
part B pins: 1 NC "No Connect", 2 NC "No Connect", 7 NC "No Connect", 8 NC "No Connect", 9 NC "No Connect", 10 NC "No Connect", 15 NC "No Connect", 16 NC "No Connect"

## MAX291EWE-T
designator U?
8th-Order Switched Capacitor Lowpass Filter, Butterworth, -40 to 85 degC, 16-Pin SOIC (W16-1), Tape and Reel; Generic Part Number: MAX291; PartNumber: MAX291EWE-T; Filter Sections: 1; Order Per Filter Section: 8; Program Method: Clock; DatasheetVersion: Rev. 5; PackageVersion: Rev. F, 10/2012; PackageReference: W16-1; PackageDescription: 16-Pin Small-Outline IC, Wide (0.3in) (W16-1), Body 10.3 x 7.5 mm, Pitch 1.27 mm; Supplier 1: Mouser; Supplier Part Number 1: N/A; Filter Characteristic: Butterworth; Filter Class: Switched Cap; Filter Type: Lowpass; Packing: Tape and Reel; Mounting Technology: Surface Mount; Code_JEDEC: MS013; ComponentLink1Description: Manufacturer URL; ComponentLink1URL: http://www.maximintegrated.com/; ComponentLink2Description: Datasheet; ComponentLink2URL: http://datasheets.maximintegrated.com/en/ds/MAX291-MAX296.pdf; ComponentLink3Description: Package Specification; ComponentLink3URL: http://pdfserv.maximintegrated.com/package_dwgs/21-0042.PDF
footprint MAXM-W16-1_N (SOIC, 16-Leads, Body 10.3x7.5mm, Pitch 1.27mm, IPC Medium Density)
footprint MAXM-W16-1_L (SOIC, 16-Leads, Body 10.3x7.5mm, Pitch 1.27mm, IPC High Density)
footprint MAXM-W16-1_M (SOIC, 16-Leads, Body 10.3x7.5mm, Pitch 1.27mm, IPC Low Density)
part A pins: 3 CLK "Clock Input. Use internal or external clock.", 4 V- (power) "Negative Supply pin. Dual supplies: -2.375V to -5.500V. Single supplies: V- = 0V.", 5 OP OUT (out) "Uncommitted Op-Amp Output", 6 OP IN- (in) "Inverting Input to the uncommitted op amp. The noninverting op amp is internally tied to ground.", 11 OUT (out) "Filter Output", 12 GND (power) "Ground. In single-supply operation, GND must be biased to the mid-supply voltage level", 13 V+ (power) "Positive Supply pin. Dual supplies:+2.375V to +5.500V. Single supplies: +4.75V to +11.0V.", 14 IN (in) "Filter Input"
part B pins: 1 NC "No Connect", 2 NC "No Connect", 7 NC "No Connect", 8 NC "No Connect", 9 NC "No Connect", 10 NC "No Connect", 15 NC "No Connect", 16 NC "No Connect"

## MAX291MJA
designator U?
8th-Order Switched Capacitor Lowpass Filter, Butterworth, -55 to 125 degC, 8-Pin DIP (J8-2); Generic Part Number: MAX291; PartNumber: MAX291MJA; Filter Sections: 1; Order Per Filter Section: 8; Program Method: Clock; DatasheetVersion: Rev. 5; PackageVersion: Rev. B, 05/2011; PackageReference: J8-2; PackageDescription: 8-Pin Ceramic Dual-In-Line, Narrow (0.3in) (J8-2), Body 10.29 x 6.73 mm, Pitch 2.54 mm; Supplier 1: Mouser; Supplier Part Number 1: N/A; Filter Characteristic: Butterworth; Filter Class: Switched Cap; Filter Type: Lowpass; Mounting Technology: Through Hole; ComponentLink1Description: Manufacturer URL; ComponentLink1URL: http://www.maximintegrated.com/; ComponentLink2Description: Datasheet; ComponentLink2URL: http://datasheets.maximintegrated.com/en/ds/MAX291-MAX296.pdf; ComponentLink3Description: Package Specification; ComponentLink3URL: http://pdfserv.maximintegrated.com/package_dwgs/21-0045.PDF
footprint MAXM-J8-2 (DIP, 8-Leads, Body 10.29x6.73mm, Pitch 2.54mm)
pins: 1 CLK "Clock Input. Use internal or external clock.", 2 V- (power) "Negative Supply pin. Dual supplies: -2.375V to -5.5V. Single supplies: V- = 0V.", 3 OP OUT (out) "Uncommitted Op-Amp Output", 4 OP IN- (in) "Inverting Input to the uncommitted op amp. The noninverting op amp is internally tied to ground.", 5 OUT (out) "Filter Output", 6 GND (power) "Ground. In single-supply operation, GND must be biased to the mid-supply voltage level.", 7 V+ (power) "Positive Supply pin. Dual supplies: +2.375V to +5.5V. Single supplies: +4.75V to +11.0V.", 8 IN (in) "Filter Input"

## MAX292CPA
designator U?
8th-Order Switched Capacitor Lowpass Filter, Bessel, Clock Tunable, 0 to 70 degC, 8-Pin DIP (P8-2); Generic Part Number: MAX292; PartNumber: MAX292CPA; Filter Sections: 1; Order Per Filter Section: 8; DatasheetVersion: Rev. 5; PackageVersion: Rev. E, 04/2011; PackageReference: P8-2; PackageDescription: 8-Pin Plastic Dual-In-Line, Narrow (0.3in) (P8-2), Body 9.375 x 6.985 mm, Pitch 2.54 mm; Supplier 1: Mouser; Supplier Part Number 1: N/A; Filter Characteristic: Bessel; Filter Class: Switched Cap; Filter Type: Lowpass; Program Method: Clock; Mounting Technology: Through Hole; Code_JEDEC: MS001-XX; ComponentLink1Description: Manufacturer URL; ComponentLink1URL: http://www.maximintegrated.com/; ComponentLink2Description: Datasheet; ComponentLink2URL: http://datasheets.maximintegrated.com/en/ds/MAX291-MAX296.pdf; ComponentLink3Description: Package Specification; ComponentLink3URL: http://pdfserv.maximintegrated.com/package_dwgs/21-0043.PDF
footprint MAXM-P8-2 (DIP, 8-Leads, Body 9.375x6.985mm, Pitch 2.54mm)
pins: 1 CLK "Clock Input. Use internal or external clock.", 2 V- (power) "Negative Supply pin. Dual supplies: -2.375V to -5.5V. Single supplies: V- = 0V.", 3 OP OUT (out) "Uncommitted Op-Amp Output", 4 OP IN- (in) "Inverting Input to the uncommitted op amp. The noninverting op amp is internally tied to ground.", 5 OUT (out) "Filter Output", 6 GND (power) "Ground. In single-supply operation, GND must be biased to the mid-supply voltage level.", 7 V+ (power) "Positive Supply pin. Dual supplies: +2.375V to +5.5V. Single supplies: +4.75V to +11.0V.", 8 IN (in) "Filter Input"

## MAX292CPA+
designator U?
8th-Order Switched Capacitor Lowpass Filter, Bessel, Clock Tunable, 0 to 70 degC, 8-Pin DIP (P8+2), Pb-Free; Generic Part Number: MAX292; PartNumber: MAX292CPA+; Filter Sections: 1; Order Per Filter Section: 8; DatasheetVersion: Rev. 5; PackageVersion: Rev. E, 04/2011; PackageReference: P8+2; PackageDescription: 8-Pin Plastic Dual-In-Line, Narrow (0.3in) (P8+2), Body 9.375 x 6.985 mm, Pitch 2.54 mm; Supplier 1: Digi-Key; Supplier Part Number 1: MAX292CPA+-ND; Supplier 2: Mouser; Supplier Part Number 2: 700-MAX292CPA; Filter Characteristic: Bessel; Filter Class: Switched Cap; Filter Type: Lowpass; Program Method: Clock; RoHS: Pb-Free; Mounting Technology: Through Hole; Code_JEDEC: MS001-XX; ComponentLink1Description: Manufacturer URL; ComponentLink1URL: http://www.maximintegrated.com/; ComponentLink2Description: Datasheet; ComponentLink2URL: http://datasheets.maximintegrated.com/en/ds/MAX291-MAX296.pdf; ComponentLink3Description: Package Specification; ComponentLink3URL: http://pdfserv.maximintegrated.com/package_dwgs/21-0043.PDF
footprint MAXM-P8+2 (DIP, 8-Leads, Body 9.375x6.985mm, Pitch 2.54mm)
pins: 1 CLK "Clock Input. Use internal or external clock.", 2 V- (power) "Negative Supply pin. Dual supplies: -2.375V to -5.5V. Single supplies: V- = 0V.", 3 OP OUT (out) "Uncommitted Op-Amp Output", 4 OP IN- (in) "Inverting Input to the uncommitted op amp. The noninverting op amp is internally tied to ground.", 5 OUT (out) "Filter Output", 6 GND (power) "Ground. In single-supply operation, GND must be biased to the mid-supply voltage level.", 7 V+ (power) "Positive Supply pin. Dual supplies: +2.375V to +5.5V. Single supplies: +4.75V to +11.0V.", 8 IN (in) "Filter Input"

## MAX292CSA
designator U?
8th-Order Switched Capacitor Lowpass Filter, Bessel, Clock Tunable, 0 to 70 degC, 8-Pin SOIC (S8-5); Generic Part Number: MAX292; PartNumber: MAX292CSA; Filter Sections: 1; Order Per Filter Section: 8; DatasheetVersion: Rev. 5; PackageVersion: Rev. D, 10/2012; PackageReference: S8-5; PackageDescription: 8-Pin Small-Outline IC, Narrow (0.15in) (S8-5), Body 4.90 x 3.90 mm, Pitch 1.27 mm; Supplier 1: Mouser; Supplier Part Number 1: N/A; Filter Characteristic: Bessel; Filter Class: Switched Cap; Filter Type: Lowpass; Program Method: Clock; Mounting Technology: Surface Mount; Code_JEDEC: MS012; ComponentLink1Description: Manufacturer URL; ComponentLink1URL: http://www.maximintegrated.com/; ComponentLink2Description: Datasheet; ComponentLink2URL: http://datasheets.maximintegrated.com/en/ds/MAX291-MAX296.pdf; ComponentLink3Description: Package Specification; ComponentLink3URL: http://pdfserv.maximintegrated.com/package_dwgs/21-0041.PDF
footprint MAXM-S8-5_N (SOIC, 8-Leads, Body 4.9x3.9mm, Pitch 1.27mm, IPC Medium Density)
footprint MAXM-S8-5_L (SOIC, 8-Leads, Body 4.9x3.9mm, Pitch 1.27mm, IPC High Density)
footprint MAXM-S8-5_M (SOIC, 8-Leads, Body 4.9x3.9mm, Pitch 1.27mm, IPC Low Density)
pins: 1 CLK "Clock Input. Use internal or external clock.", 2 V- (power) "Negative Supply pin. Dual supplies: -2.375V to -5.5V. Single supplies: V- = 0V.", 3 OP OUT (out) "Uncommitted Op-Amp Output", 4 OP IN- (in) "Inverting Input to the uncommitted op amp. The noninverting op amp is internally tied to ground.", 5 OUT (out) "Filter Output", 6 GND (power) "Ground. In single-supply operation, GND must be biased to the mid-supply voltage level.", 7 V+ (power) "Positive Supply pin. Dual supplies: +2.375V to +5.5V. Single supplies: +4.75V to +11.0V.", 8 IN (in) "Filter Input"

## MAX292CSA+
designator U?
8th-Order Switched Capacitor Lowpass Filter, Bessel, Clock Tunable, 0 to 70 degC, 8-Pin SOIC (S8+5), Pb-Free; Generic Part Number: MAX292; PartNumber: MAX292CSA+; Filter Sections: 1; Order Per Filter Section: 8; DatasheetVersion: Rev. 5; PackageVersion: Rev. D, 10/2012; PackageReference: S8+5; PackageDescription: 8-Pin Small-Outline IC, Narrow (0.15in) (S8+5), Body 4.90 x 3.90 mm, Pitch 1.27 mm; Supplier 1: Digi-Key; Supplier Part Number 1: MAX292CSA+-ND; Supplier 2: Newark; Supplier Part Number 2: 67K4535; Supplier 3: Mouser; Supplier Part Number 3: 700-MAX292CSA; Filter Characteristic: Bessel; Filter Class: Switched Cap; Filter Type: Lowpass; Program Method: Clock; RoHS: Pb-Free; Mounting Technology: Surface Mount; Code_JEDEC: MS012; ComponentLink1Description: Manufacturer URL; ComponentLink1URL: http://www.maximintegrated.com/; ComponentLink2Description: Datasheet; ComponentLink2URL: http://datasheets.maximintegrated.com/en/ds/MAX291-MAX296.pdf; ComponentLink3Description: Package Specification; ComponentLink3URL: http://pdfserv.maximintegrated.com/package_dwgs/21-0041.PDF
footprint MAXM-S8+5_N (SOIC, 8-Leads, Body 4.90x3.90mm, Pitch 1.27mm, IPC Medium Density)
footprint MAXM-S8+5_L (SOIC, 8-Leads, Body 4.90x3.90mm, Pitch 1.27mm, IPC High Density)
footprint MAXM-S8+5_M (SOIC, 8-Leads, Body 4.90x3.90mm, Pitch 1.27mm, IPC Low Density)
pins: 1 CLK "Clock Input. Use internal or external clock.", 2 V- (power) "Negative Supply pin. Dual supplies: -2.375V to -5.5V. Single supplies: V- = 0V.", 3 OP OUT (out) "Uncommitted Op-Amp Output", 4 OP IN- (in) "Inverting Input to the uncommitted op amp. The noninverting op amp is internally tied to ground.", 5 OUT (out) "Filter Output", 6 GND (power) "Ground. In single-supply operation, GND must be biased to the mid-supply voltage level.", 7 V+ (power) "Positive Supply pin. Dual supplies: +2.375V to +5.5V. Single supplies: +4.75V to +11.0V.", 8 IN (in) "Filter Input"

## MAX292CSA+T
designator U?
8th-Order Switched Capacitor Lowpass Filter, Bessel, Clock Tunable, 0 to 70 degC, 8-Pin SOIC (S8+5), Pb-Free, Tape and Reel; Generic Part Number: MAX292; PartNumber: MAX292CSA+T; Filter Sections: 1; Order Per Filter Section: 8; DatasheetVersion: Rev. 5; PackageVersion: Rev. D, 10/2012; PackageReference: S8+5; PackageDescription: 8-Pin Small-Outline IC, Narrow (0.15in) (S8+5), Body 4.90 x 3.90 mm, Pitch 1.27 mm; Supplier 1: Digi-Key; Supplier Part Number 1: MAX292CSA+T-ND; Supplier 2: Mouser; Supplier Part Number 2: 700-MAX292CSAT; Filter Characteristic: Bessel; Filter Class: Switched Cap; Filter Type: Lowpass; Packing: Tape and Reel; Program Method: Clock; RoHS: Pb-Free; Mounting Technology: Surface Mount; Code_JEDEC: MS012; ComponentLink1Description: Manufacturer URL; ComponentLink1URL: http://www.maximintegrated.com/; ComponentLink2Description: Datasheet; ComponentLink2URL: http://datasheets.maximintegrated.com/en/ds/MAX291-MAX296.pdf; ComponentLink3Description: Package Specification; ComponentLink3URL: http://pdfserv.maximintegrated.com/package_dwgs/21-0041.PDF
footprint MAXM-S8+5_N (SOIC, 8-Leads, Body 4.90x3.90mm, Pitch 1.27mm, IPC Medium Density)
footprint MAXM-S8+5_L (SOIC, 8-Leads, Body 4.90x3.90mm, Pitch 1.27mm, IPC High Density)
footprint MAXM-S8+5_M (SOIC, 8-Leads, Body 4.90x3.90mm, Pitch 1.27mm, IPC Low Density)
pins: 1 CLK "Clock Input. Use internal or external clock.", 2 V- (power) "Negative Supply pin. Dual supplies: -2.375V to -5.5V. Single supplies: V- = 0V.", 3 OP OUT (out) "Uncommitted Op-Amp Output", 4 OP IN- (in) "Inverting Input to the uncommitted op amp. The noninverting op amp is internally tied to ground.", 5 OUT (out) "Filter Output", 6 GND (power) "Ground. In single-supply operation, GND must be biased to the mid-supply voltage level.", 7 V+ (power) "Positive Supply pin. Dual supplies: +2.375V to +5.5V. Single supplies: +4.75V to +11.0V.", 8 IN (in) "Filter Input"

## MAX292CSA-T
designator U?
8th-Order Switched Capacitor Lowpass Filter, Bessel, Clock Tunable, 0 to 70 degC, 8-Pin SOIC (S8-5), Tape and Reel; Generic Part Number: MAX292; PartNumber: MAX292CSA-T; Filter Sections: 1; Order Per Filter Section: 8; DatasheetVersion: Rev. 5; PackageVersion: Rev. D, 10/2012; PackageReference: S8-5; PackageDescription: 8-Pin Small-Outline IC, Narrow (0.15in) (S8-5), Body 4.90 x 3.90 mm, Pitch 1.27 mm; Supplier 1: Mouser; Supplier Part Number 1: N/A; Filter Characteristic: Bessel; Filter Class: Switched Cap; Filter Type: Lowpass; Packing: Tape and Reel; Program Method: Clock; Mounting Technology: Surface Mount; Code_JEDEC: MS012; ComponentLink1Description: Manufacturer URL; ComponentLink1URL: http://www.maximintegrated.com/; ComponentLink2Description: Datasheet; ComponentLink2URL: http://datasheets.maximintegrated.com/en/ds/MAX291-MAX296.pdf; ComponentLink3Description: Package Specification; ComponentLink3URL: http://pdfserv.maximintegrated.com/package_dwgs/21-0041.PDF
footprint MAXM-S8-5_N (SOIC, 8-Leads, Body 4.9x3.9mm, Pitch 1.27mm, IPC Medium Density)
footprint MAXM-S8-5_L (SOIC, 8-Leads, Body 4.9x3.9mm, Pitch 1.27mm, IPC High Density)
footprint MAXM-S8-5_M (SOIC, 8-Leads, Body 4.9x3.9mm, Pitch 1.27mm, IPC Low Density)
pins: 1 CLK "Clock Input. Use internal or external clock.", 2 V- (power) "Negative Supply pin. Dual supplies: -2.375V to -5.5V. Single supplies: V- = 0V.", 3 OP OUT (out) "Uncommitted Op-Amp Output", 4 OP IN- (in) "Inverting Input to the uncommitted op amp. The noninverting op amp is internally tied to ground.", 5 OUT (out) "Filter Output", 6 GND (power) "Ground. In single-supply operation, GND must be biased to the mid-supply voltage level.", 7 V+ (power) "Positive Supply pin. Dual supplies: +2.375V to +5.5V. Single supplies: +4.75V to +11.0V.", 8 IN (in) "Filter Input"